# Altium footprint library SnapEDApcb.PcbLib: 1 footprints
Each footprint in its own frame and in the unit in brackets; x right, y up, seen from the top. Pads: shape width x height; smd on the part's side, far side on the other; paste and mask are expansions set on the pad; w line width, h text height; cw(c..) or ccw(c..) is an arc to the next point about the centre after c.
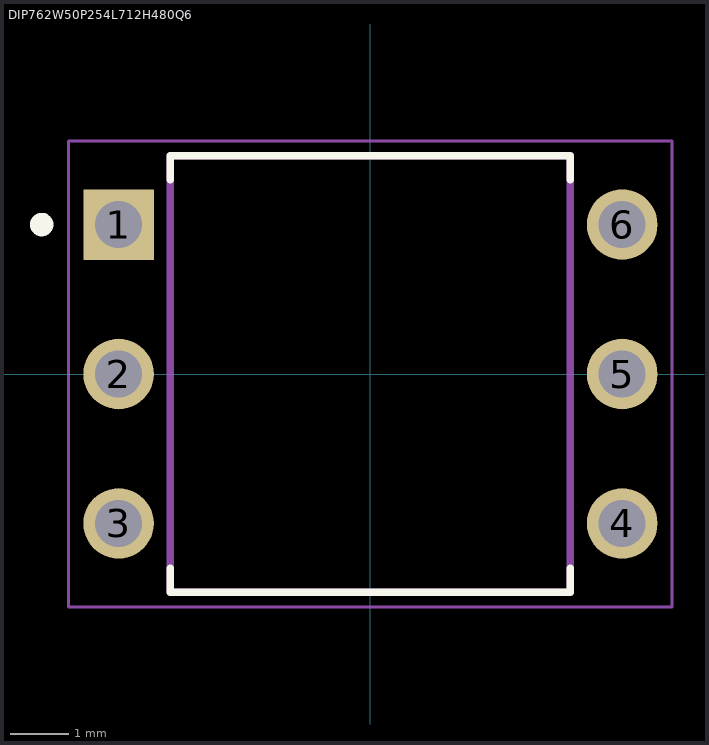
[diagram p0: the footprint, top view; thin cyan lines are the x and y axes]

## DIP762W50P254L712H480Q6 [mm]
pads (6):
  rect 1.2x1.2 hole 0.8: 1(-4.28,2.54)
  round 1.2 hole 0.8: 2(-4.28,0) 3(-4.28,-2.54) 4(4.28,-2.54) 5(4.28,0) 6(4.28,2.54)
Top Overlay:
  circle w0.2: c-5.588,2.54 r0.1
  lines w0.127: -3.4,-3.302 -3.4,-3.71 3.4,-3.71 3.4,-3.302 ; -3.4,3.302 -3.4,3.71 3.4,3.71 3.4,3.302
Mechanical 13:
  lines w0.127: -3.4,-3.71 -3.4,3.71 3.4,3.71 3.4,-3.71 -3.4,-3.71
Mechanical 15:
  lines w0.05: -5.13,-3.96 -5.13,3.96 5.13,3.96 5.13,-3.96 -5.13,-3.96